# Altium footprint library F主板_V0.PcbLib: 63 footprints (part 2 of 4)
Each footprint in its own frame and in the unit in brackets; x right, y up, seen from the top. Pads: shape width x height; smd on the part's side, far side on the other; paste and mask are expansions set on the pad; w line width, h text height; cw(c..) or ccw(c..) is an arc to the next point about the centre after c.
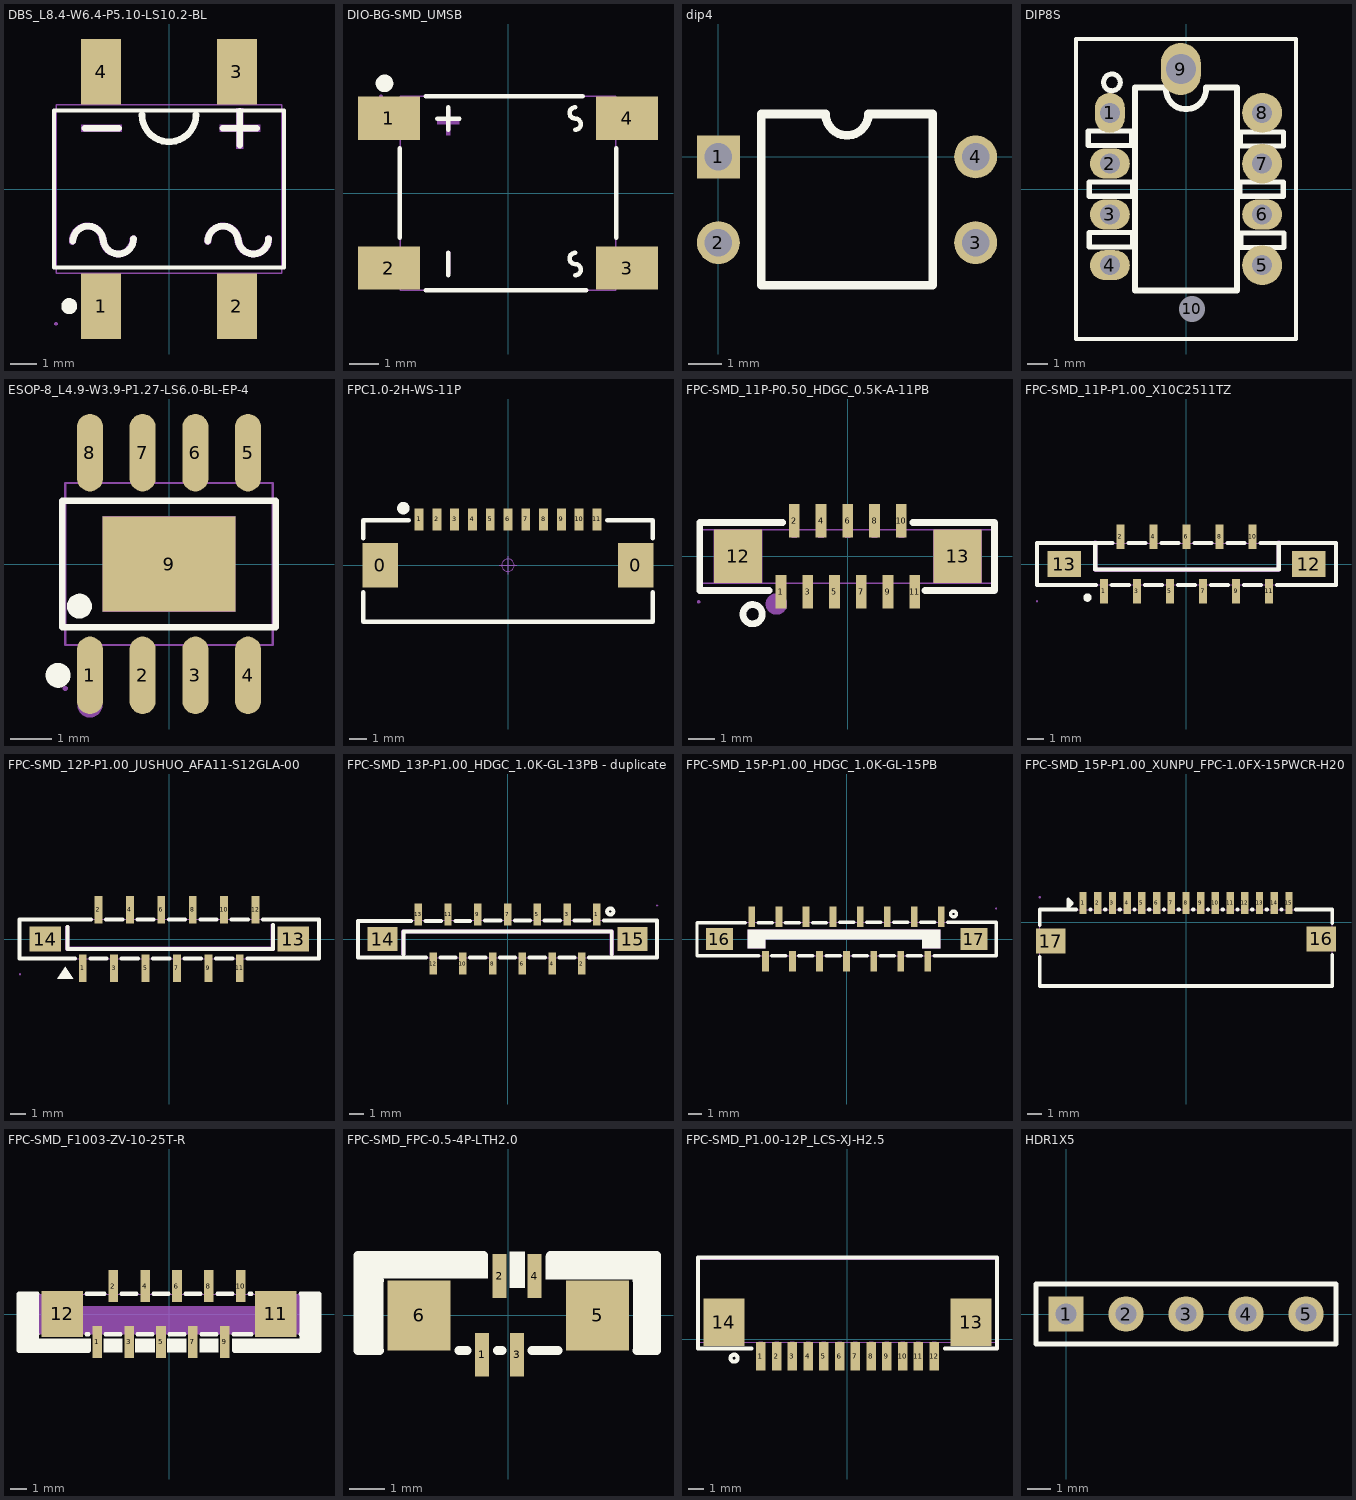
[diagram p1: the footprints below, top view; thin cyan lines are the x and y axes]

## DBS_L8.4-W6.4-P5.10-LS10.2-BL [mm]
pads (4):
  rect 1.505x2.47 smd: 1(-2.55,-4.41) 2(2.55,-4.41) 3(2.55,4.41) 4(-2.55,4.41)
Top Overlay:
  circle w0.3: c-3.755,-4.41 r0.15
  lines w0.152: -4.326,-2.946 4.326,-2.946 4.326,2.946 -4.326,2.946 -4.326,-2.946
  lines w0.254: -3.619,-1.968 cw(c-3.048,-1.968) -2.476,-1.968 ; -3.175,2.286 -1.905,2.286 ; -2.476,-1.873 ccw(c-1.905,-1.873) -1.333,-1.873 ; -1.016,2.794 ccw(c0,2.794) 1.016,2.794 ; 1.46,-1.968 cw(c2.032,-1.968) 2.603,-1.968 ; 2.032,2.286 3.302,2.286 ; 2.603,-1.873 ccw(c3.175,-1.873) 3.746,-1.873 ; 2.667,1.651 2.667,2.921
Mechanical 6:
  drawing of 5 lines, arcs and shapes, not listed
Mechanical 15:
  region: -4.19,-5.075 -4.19,-5.05 -4.225,-5.015 -4.275,-5.015 -4.31,-5.05 -4.31,-5.075 -4.31,-5.1 -4.275,-5.135 -4.225,-5.135 -4.19,-5.1
  region: 3.087,5.075 3.087,4.125 2.012,4.125 2.012,5.075
  region: 3.087,4.135 3.087,3.165 2.012,3.165 2.012,4.135
  region: -2.012,5.075 -2.012,4.125 -3.087,4.125 -3.087,5.075
  region: -2.012,4.135 -2.012,3.165 -3.087,3.165 -3.087,4.135
  region: 3.087,-5.075 3.087,-4.125 2.012,-4.125 2.012,-5.075
  region: 3.087,-4.135 3.087,-3.165 2.012,-3.165 2.012,-4.135
  region: -2.012,-5.075 -2.012,-4.125 -3.087,-4.125 -3.087,-5.075
  region: -2.012,-4.135 -2.012,-3.165 -3.087,-3.165 -3.087,-4.135
  lines w0.051: -4.25,-3.175 4.25,-3.175 4.25,3.175 -4.25,3.175 -4.25,-3.175

## DIO-BG-SMD_UMSB [mm]
pads (4):
  rect 2.105x1.47 smd: 1(-4.053,2.55) 2(-4.053,-2.55) 3(4.053,-2.55) 4(4.053,2.55)
Top Overlay:
  circle w0.3: c-4.205,3.737 r0.15
  lines w0.152: -3.683,-1.524 -3.683,1.524 ; -2.794,-3.302 2.667,-3.302 ; -2.794,3.302 2.54,3.302 ; -2.413,2.54 -1.651,2.54 ; -2.032,-2.794 -2.032,-2.032 ; -2.032,2.159 -2.032,2.921 ; 2.286,-2.794 ccw(c2.286,-2.603) 2.286,-2.413 cw(c2.286,-2.222) 2.286,-2.032 ; 2.286,2.159 ccw(c2.286,2.349) 2.286,2.54 cw(c2.286,2.73) 2.286,2.921 ; 3.683,-1.524 3.683,1.524
Mechanical 6:
  circle w0.3: c-4.725,2.55 r0.15
  region: -2.099,-2.748 -2.099,-1.986 -1.972,-1.986 -1.972,-2.748
  region: -2.095,2.857 -1.968,2.857 -1.968,1.968 -2.095,1.968
  region: -2.413,2.476 -1.651,2.476 -1.651,2.349 -2.413,2.349
Mechanical 15:
  region: 3.025,3.075 3.025,2.025 4.325,2.025 4.325,3.075
  region: 3.025,-2.025 3.025,-3.075 4.325,-3.075 4.325,-2.025
  region: -3.025,-2.025 -3.025,-3.075 -4.325,-3.075 -4.325,-2.025
  region: -3.025,3.075 -3.025,2.025 -4.325,2.025 -4.325,3.075
  region: -4.265,3.3 -4.266,3.324 -4.301,3.357 -4.349,3.357 -4.384,3.324 -4.385,3.3 -4.384,3.276 -4.349,3.242 -4.301,3.242 -4.266,3.276
  lines w0.051: -3.675,-3.3 -3.675,3.3 3.675,3.3 3.675,-3.3 -3.675,-3.3

## dip4 [mil]
height 19.68
pads (4):
  rect 50x50 hole 32: 1(0,0)
  round 50 hole 32: 2(0,-100) 3(300,-100) 4(300,0)
Top Overlay:
  lines w10: 50,-150 50,50 125,50 ccw(c150,50) 175,50 250,50 250,-150 50,-150

## DIP8S [mm]
height 18.8
pads (10):
  oval 1.5x2 hole 1: 1(-3.81,3.81)
  oval 2x1.5 hole 1: 2(-3.81,1.27) 3(-3.81,-1.27) 4(-3.81,-3.81) 6(3.81,-1.27)
  round 2 hole 1: 5(3.81,-3.81) 7(3.81,1.27) 8(3.81,3.81)
  oval 2x2.6 hole 1.5: 9(-0.26,6)
  round 1.2 hole 1.3: 10(0.3,-6)
Top Overlay:
  circle w0.25: c-3.706,5.33 r0.418
  lines w0.2: -5.5,-7.5 -5.5,7.5 5.5,7.5 5.5,-7.5 -5.5,-7.5
  lines w0.254: -4.886,2.183 -4.886,2.894 -2.72,2.894 -2.72,2.183 -4.886,2.183 ; -4.838,-2.895 -4.838,-2.183 -2.672,-2.183 -2.672,-2.895 -4.838,-2.895 ; -4.838,-0.362 -4.838,0.35 -2.672,0.35 -2.672,-0.362 -4.838,-0.362 ; 2.697,-0.361 2.697,0.35 4.863,0.35 4.863,-0.361 2.697,-0.361 ; 2.718,2.14 2.718,2.851 4.884,2.851 4.884,2.14 2.718,2.14 ; 2.738,-2.915 2.738,-2.203 4.904,-2.203 4.904,-2.915 2.738,-2.915
  lines w0.3: -1,5.051 -1,5.08 -2.54,5.08 -2.54,-5.08 2.54,-5.08 2.54,5.08 1,5.08 1,5.051 cw(c0,4.991) -1,5.052

## ESOP-8_L4.9-W3.9-P1.27-LS6.0-BL-EP-4 [mm]
pads (9):
  oval 0.63x1.865 smd: 1(-1.905,-2.682) 2(-0.635,-2.682) 3(0.635,-2.682) 4(1.905,-2.682) 5(1.905,2.682) 6(0.635,2.682) 7(-0.635,2.682) 8(-1.905,2.682)
  rect 3.2x2.3 smd paste+0 mask+0.05: 9(0,0)
Top Overlay:
  circle w0.3: c-2.159,-1.016 r0.15
  circle w0.3: c-2.672,-2.682 r0.15
  lines w0.152: -2.576,-1.521 -2.576,1.521 2.576,1.521 2.576,-1.521 -2.576,-1.521
Mechanical 6:
  circle w0.3: c-1.905,-3.4 r0.15
Mechanical 15:
  region: -2.44,-3 -2.44,-2.976 -2.475,-2.941 -2.524,-2.941 -2.559,-2.976 -2.56,-3 -2.559,-3.025 -2.524,-3.059 -2.475,-3.059 -2.44,-3.024
  region: 1.695,1.94 1.695,2.175 2.115,2.175 2.115,1.94
  region: 1.695,2.165 1.695,3 2.115,3 2.115,2.165
  region: 0.425,1.94 0.425,2.175 0.845,2.175 0.845,1.94
  region: 0.425,2.165 0.425,3 0.845,3 0.845,2.165
  region: -0.845,1.94 -0.845,2.175 -0.425,2.175 -0.425,1.94
  region: -0.845,2.165 -0.845,3 -0.425,3 -0.425,2.165
  region: -2.115,1.94 -2.115,2.175 -1.695,2.175 -1.695,1.94
  region: -2.115,2.165 -2.115,3 -1.695,3 -1.695,2.165
  region: 1.695,-2.175 1.695,-1.94 2.115,-1.94 2.115,-2.175
  region: 1.695,-3 1.695,-2.165 2.115,-2.165 2.115,-3
  region: 0.425,-2.175 0.425,-1.94 0.845,-1.94 0.845,-2.175
  region: 0.425,-3 0.425,-2.165 0.845,-2.165 0.845,-3
  region: -0.845,-2.175 -0.845,-1.94 -0.425,-1.94 -0.425,-2.175
  region: -0.845,-3 -0.845,-2.165 -0.425,-2.165 -0.425,-3
  region: -2.115,-2.175 -2.115,-1.94 -1.695,-1.94 -1.695,-2.175
  region: -2.115,-3 -2.115,-2.165 -1.695,-2.165 -1.695,-3
  region: -1.6,1.15 1.6,1.15 1.6,-1.15 -1.6,-1.15
  lines w0.051: -2.5,-1.95 -2.5,1.95 2.5,1.95 2.5,-1.95 -2.5,-1.95

## FPC1.0-2H-WS-11P [mm] "翻盖FPC，脚距1mm，不含脚（长15.9mm，宽5.2mm，高1.96mm）"
height 1.5
pads (13):
  rect 2x2.5 smd: 0(-7.19,0) 0(7.19,0)
  rect 0.5x1.25 smd: 1(-5,2.575) 2(-4,2.575) 3(-3,2.575) 4(-2,2.575) 5(-1,2.575) 6(0,2.575) 7(1,2.575) 8(2,2.575) 9(3,2.575) 10(4,2.575) 11(5,2.575)
Top Overlay:
  circle w0.5: c-5.889,3.21 r0.1
  lines w0.254: -8.136,-1.524 -8.136,-3.175 8.136,-3.175 8.136,-1.524 ; -8.136,1.524 -8.136,2.54 -5.596,2.54 ; 5.596,2.54 8.136,2.54 8.136,1.524
Mechanical 15:
  circle w0.05: c0,0 r0.35
  lines w0.05: -0.5,0 0.5,0 ; 0,-0.5 0,0.5
3D body "FPC1.0 2H-WS-11P.STEP": height 2, standoff -0.02, extent -7.95,-3.15 7.95,2.85

## FPC-SMD_11P-P0.50_HDGC_0.5K-A-11PB [mm]
pads (13):
  rect 0.4x1.25 smd paste+0 mask+0.05: 1(-2.5,-1.325) 2(-2,1.325) 3(-1.5,-1.325) 4(-1,1.325) 5(-0.5,-1.325) 6(0,1.325) 7(0.5,-1.325) 8(1,1.325) 9(1.5,-1.325) 10(2,1.325) 11(2.5,-1.325)
  rect 1.8x2 smd paste+0 mask+0.05: 12(-4.1,0) 13(4.1,0)
Top Overlay:
  circle w0.254: c-3.556,-2.159 r0.359
  lines w0.254: -2.932,-1.27 -5.53,-1.27 -5.53,1.27 -2.431,1.27 ; 2.43,1.27 5.478,1.27 5.478,-1.27 2.88,-1.27
Mechanical 6:
  circle w0.4: c-2.667,-1.778 r0.2
Mechanical 15:
  region: -5.515,-1.7 -5.515,-1.675 -5.55,-1.64 -5.6,-1.64 -5.635,-1.675 -5.635,-1.7 -5.635,-1.725 -5.6,-1.76 -5.55,-1.76 -5.515,-1.725
  region: 2.4,-0.7 2.6,-0.7 2.6,-1.7 2.4,-1.7
  region: 1.9,1.7 2.1,1.7 2.1,0.7 1.9,0.7
  region: 1.4,-0.7 1.6,-0.7 1.6,-1.7 1.4,-1.7
  region: 0.9,1.7 1.1,1.7 1.1,0.7 0.9,0.7
  region: 0.4,-0.7 0.6,-0.7 0.6,-1.7 0.4,-1.7
  region: -0.1,1.7 0.1,1.7 0.1,0.7 -0.1,0.7
  region: -0.6,-0.7 -0.4,-0.7 -0.4,-1.7 -0.6,-1.7
  region: -1.1,1.7 -0.9,1.7 -0.9,0.7 -1.1,0.7
  region: -1.6,-0.7 -1.4,-0.7 -1.4,-1.7 -1.6,-1.7
  region: -2.1,1.7 -1.9,1.7 -1.9,0.7 -2.1,0.7
  region: -2.6,-0.7 -2.4,-0.7 -2.4,-1.7 -2.6,-1.7
  region: -5,-1 -3.2,-1 -3.2,1 -5,1
  region: 3.2,-1 5,-1 5,1 3.2,1
  lines w0.051: -5.575,-1 -5.575,1 5.575,1 5.575,-1 -5.575,-1

## FPC-SMD_11P-P1.00_X10C2511TZ [mm]
pads (13):
  rect 0.5x1.5 smd paste+0 mask+0.05: 1(-5,-1.65) 2(-4,1.65) 3(-3,-1.65) 4(-2,1.65) 5(-1,-1.65) 6(0,1.65) 7(1,-1.65) 8(2,1.65) 9(3,-1.65) 10(4,1.65) 11(5,-1.65)
  rect 2x1.6 smd paste+0 mask+0.05: 12(7.4,0) 13(-7.4,0)
Top Overlay:
  circle w0.254: c-5.994,-2.032 r0.127
  lines w0.254: -5.525,1.27 -5.525,-0.34 5.58,-0.34 5.58,1.27 ; -5.481,-1.27 -9.05,-1.27 -9.05,1.27 -4.481,1.27 ; -4.519,-1.27 -3.481,-1.27 ; -3.519,1.27 -2.481,1.27 ; -2.519,-1.27 -1.481,-1.27 ; -1.519,1.27 -0.481,1.27 ; -0.519,-1.27 0.519,-1.27 ; 0.481,1.27 1.519,1.27 ; 1.481,-1.27 2.519,-1.27 ; 2.481,1.27 3.519,1.27 ; 3.481,-1.27 4.519,-1.27 ; 5.48,-1.27 8.994,-1.27 ; 5.519,1.27 4.481,1.27 9.049,1.27 9.049,-1.27
Mechanical 6:
  region: -5.398,1.27 -5.398,-0.213 5.453,-0.213 5.453,1.27 5.453,1.323 5.527,1.397 5.633,1.397 5.707,1.323 5.707,1.27 5.707,-0.34 5.707,-0.365 5.688,-0.412 5.652,-0.448 5.605,-0.467 5.58,-0.467 -5.525,-0.467 -5.55,-0.467 -5.596,-0.448 -5.632,-0.412 -5.652,-0.365 -5.652,-0.34 -5.652,1.27 -5.652,1.323 -5.577,1.397 -5.472,1.397 -5.398,1.323
Mechanical 15:
  region: -8.99,-2.25 -8.99,-2.225 -9.025,-2.19 -9.075,-2.19 -9.11,-2.225 -9.11,-2.25 -9.11,-2.275 -9.075,-2.31 -9.025,-2.31 -8.99,-2.275
  region: 4.875,-1.05 5.125,-1.05 5.125,-2.25 4.875,-2.25
  region: 3.875,2.25 4.125,2.25 4.125,1.05 3.875,1.05
  region: 2.875,-1.05 3.125,-1.05 3.125,-2.25 2.875,-2.25
  region: 1.875,2.25 2.125,2.25 2.125,1.05 1.875,1.05
  region: 0.875,-1.05 1.125,-1.05 1.125,-2.25 0.875,-2.25
  region: -0.125,2.25 0.125,2.25 0.125,1.05 -0.125,1.05
  region: -1.125,-1.05 -0.875,-1.05 -0.875,-2.25 -1.125,-2.25
  region: -2.125,2.25 -1.875,2.25 -1.875,1.05 -2.125,1.05
  region: -3.125,-1.05 -2.875,-1.05 -2.875,-2.25 -3.125,-2.25
  region: -4.125,2.25 -3.875,2.25 -3.875,1.05 -4.125,1.05
  region: -5.125,-1.05 -4.875,-1.05 -4.875,-2.25 -5.125,-2.25
  region: 6.7,0.56 8.1,0.56 8.1,-0.56 6.7,-0.56
  region: -8.1,0.56 -6.7,0.56 -6.7,-0.56 -8.1,-0.56
  lines w0.051: -9.05,-1.25 -9.05,1.25 9.05,1.25 9.05,-1.25 -9.05,-1.25

## FPC-SMD_12P-P1.00_JUSHUO_AFA11-S12GLA-00 [mm]
pads (14):
  rect 0.5x1.75 smd paste+0 mask+0.05: 1(-5.5,-1.875) 2(-4.5,1.875) 3(-3.5,-1.875) 4(-2.5,1.875) 5(-1.5,-1.875) 6(-0.5,1.875) 7(0.5,-1.875) 8(1.5,1.875) 9(2.5,-1.875) 10(3.5,1.875) 11(4.5,-1.875) 12(5.5,1.875)
  rect 2x1.6 smd paste+0 mask+0.05: 13(7.9,0) 14(-7.9,0)
Top Overlay:
  region: -6.621,-1.778 -7.129,-2.54 -6.113,-2.54
  lines w0.254: -6.477,0.762 -6.477,-0.635 6.604,-0.635 6.604,0.889 ; -5.981,-1.25 -9.542,-1.25 -9.542,1.25 -4.981,1.25 ; -5.019,-1.25 -3.981,-1.25 ; -4.019,1.25 -2.981,1.25 ; -3.019,-1.25 -1.981,-1.25 ; -2.019,1.25 -0.981,1.25 ; -1.019,-1.25 0.019,-1.25 ; -0.019,1.25 1.019,1.25 ; 0.981,-1.25 2.019,-1.25 ; 1.981,1.25 3.019,1.25 ; 2.981,-1.25 4.019,-1.25 ; 3.981,1.25 5.019,1.25 ; 4.981,-1.25 9.542,-1.25 9.542,1.25 5.981,1.25
Mechanical 6:
  region: -6.35,0.762 -6.35,-0.508 6.477,-0.508 6.477,0.889 6.477,0.942 6.551,1.016 6.657,1.016 6.731,0.942 6.731,0.889 6.731,-0.635 6.731,-0.66 6.712,-0.707 6.676,-0.743 6.629,-0.762 6.604,-0.762 -6.477,-0.762 -6.502,-0.762 -6.549,-0.743 -6.585,-0.707 -6.604,-0.66 -6.604,-0.635 -6.604,0.762 -6.604,0.815 -6.53,0.889 -6.424,0.889 -6.35,0.815
Mechanical 15:
  region: 7.1,0.64 8.7,0.64 8.7,-0.64 7.1,-0.64
  region: -8.7,0.64 -7.1,0.64 -7.1,-0.64 -8.7,-0.64
  region: -5.625,-1.05 -5.375,-1.05 -5.375,-2.25 -5.625,-2.25
  region: -4.625,2.25 -4.375,2.25 -4.375,1.05 -4.625,1.05
  region: -3.625,-1.05 -3.375,-1.05 -3.375,-2.25 -3.625,-2.25
  region: -2.625,2.25 -2.375,2.25 -2.375,1.05 -2.625,1.05
  region: -1.625,-1.05 -1.375,-1.05 -1.375,-2.25 -1.625,-2.25
  region: -0.625,2.25 -0.375,2.25 -0.375,1.05 -0.625,1.05
  region: 0.375,-1.05 0.625,-1.05 0.625,-2.25 0.375,-2.25
  region: 1.375,2.25 1.625,2.25 1.625,1.05 1.375,1.05
  region: 2.375,-1.05 2.625,-1.05 2.625,-2.25 2.375,-2.25
  region: 3.375,2.25 3.625,2.25 3.625,1.05 3.375,1.05
  region: 4.375,-1.05 4.625,-1.05 4.625,-2.25 4.375,-2.25
  region: 5.375,2.25 5.625,2.25 5.625,1.05 5.375,1.05
  region: -9.44,-2.25 -9.44,-2.225 -9.475,-2.19 -9.525,-2.19 -9.56,-2.225 -9.56,-2.25 -9.56,-2.275 -9.525,-2.31 -9.475,-2.31 -9.44,-2.275
  lines w0.051: -9.5,-1.25 9.5,-1.25 9.5,1.25 -9.5,1.25 -9.5,-1.25

## FPC-SMD_13P-P1.00_HDGC_1.0K-GL-13PB - duplicate [mm]
pads (15):
  rect 0.5x1.5 smd paste+0 mask+0.05: 1(6,1.65) 2(5,-1.65) 3(4,1.65) 4(3,-1.65) 5(2,1.65) 6(1,-1.65) 7(0,1.65) 8(-1,-1.65) 9(-2,1.65) 10(-3,-1.65) 11(-4,1.65) 12(-5,-1.65) 13(-6,1.65)
  rect 2x1.6 smd paste+0 mask+0.05: 14(-8.4,0) 15(8.4,0)
Top Overlay:
  circle w0.254: c6.9,1.85 r0.212
  lines w0.254: -7,-1 -7,0.5 7,0.5 7,-1 ; -6.481,1.2 -10.05,1.2 -10.05,-1.251 -5.481,-1.251 ; -5.519,1.2 -4.481,1.2 ; -4.519,-1.251 -3.481,-1.251 ; -3.519,1.2 -2.5,1.2 ; -2.519,-1.25 -1.481,-1.25 ; -1.519,1.25 -0.481,1.25 ; -0.519,-1.25 0.519,-1.25 ; 0.481,1.25 1.519,1.25 ; 1.481,-1.25 2.519,-1.25 ; 2.481,1.25 3.519,1.25 ; 3.481,-1.25 4.519,-1.25 ; 4.481,1.25 5.519,1.25 ; 5.481,-1.25 10.05,-1.25 10.05,1.25 6.481,1.25
Mechanical 6:
  region: -7.127,-1 -7.127,0.5 -7.127,0.525 -7.108,0.572 -7.072,0.608 -7.025,0.627 -7,0.627 7,0.627 7.025,0.627 7.072,0.608 7.108,0.572 7.127,0.525 7.127,0.5 7.127,-1 7.127,-1.053 7.053,-1.127 6.947,-1.127 6.873,-1.053 6.873,-1 6.873,0.373 -6.873,0.373 -6.873,-1 -6.873,-1.053 -6.947,-1.127 -7.053,-1.127 -7.127,-1.053
Mechanical 15:
  region: 10.11,2.25 10.109,2.274 10.074,2.307 10.026,2.307 9.991,2.274 9.99,2.25 9.991,2.226 10.026,2.192 10.074,2.192 10.109,2.226
  region: -6.125,2.25 -5.875,2.25 -5.875,1.05 -6.125,1.05
  region: -5.125,-1.05 -4.875,-1.05 -4.875,-2.25 -5.125,-2.25
  region: -4.125,2.25 -3.875,2.25 -3.875,1.05 -4.125,1.05
  region: -3.125,-1.05 -2.875,-1.05 -2.875,-2.25 -3.125,-2.25
  region: -1.125,-1.05 -0.875,-1.05 -0.875,-2.25 -1.125,-2.25
  region: 0.875,-1.05 1.125,-1.05 1.125,-2.25 0.875,-2.25
  region: 2.875,-1.05 3.125,-1.05 3.125,-2.25 2.875,-2.25
  region: 4.875,-1.05 5.125,-1.05 5.125,-2.25 4.875,-2.25
  region: 5.875,2.25 6.125,2.25 6.125,1.05 5.875,1.05
  region: 3.875,2.25 4.125,2.25 4.125,1.05 3.875,1.05
  region: 1.875,2.25 2.125,2.25 2.125,1.05 1.875,1.05
  region: -0.125,2.25 0.125,2.25 0.125,1.05 -0.125,1.05
  region: -2.125,2.25 -1.875,2.25 -1.875,1.05 -2.125,1.05
  region: 7.7,0.56 9.1,0.56 9.1,-0.56 7.7,-0.56
  region: -9.1,0.56 -7.7,0.56 -7.7,-0.56 -9.1,-0.56
  lines w0.051: -10.05,-1.25 -10.05,1.25 10.05,1.25 10.05,-1.25 -10.05,-1.25

## FPC-SMD_15P-P1.00_HDGC_1.0K-GL-15PB [mm]
pads (17):
  rect 0.5x1.5 smd paste+0 mask+0.05: 1(7,1.65) 2(6,-1.65) 3(5,1.65) 4(4,-1.65) 5(3,1.65) 6(2,-1.65) 7(1,1.65) 8(0,-1.65) 9(-1,1.65) 10(-2,-1.65) 11(-3,1.65) 12(-4,-1.65) 13(-5,1.65) 14(-6,-1.65) 15(-7,1.65)
  rect 2x1.6 smd paste+0 mask+0.05: 16(-9.4,0) 17(9.4,0)
Top Overlay:
  circle w0.254: c7.9,1.85 r0.212
  region: -7.3,0.7 6.9,0.7 6.9,-0.7 5.6,-0.7 5.6,0 -6,0 -6,-0.7 -7.3,-0.7 -7.3,-0.3
  lines w0.254: -7.481,1.2 -11.05,1.2 -11.05,-1.251 -6.481,-1.251 ; -6.519,1.2 -5.481,1.2 ; -5.519,-1.251 -4.481,-1.251 ; -4.519,1.2 -3.481,1.2 ; -3.519,-1.251 -2.481,-1.251 ; -2.519,1.2 -1.5,1.2 ; -1.519,-1.25 -0.481,-1.25 ; -0.519,1.25 0.519,1.25 ; 0.481,-1.25 1.519,-1.25 ; 1.481,1.25 2.519,1.25 ; 2.481,-1.25 3.519,-1.25 ; 3.481,1.25 4.519,1.25 ; 4.481,-1.25 5.519,-1.25 ; 5.481,1.25 6.519,1.25 ; 6.481,-1.25 11.05,-1.25 11.05,1.25 7.481,1.25
Mechanical 6:
  region: -7.3,0.7 6.9,0.7 6.9,-0.7 5.6,-0.7 5.6,0 -6,0 -6,-0.7 -7.3,-0.7 -7.3,-0.3
Mechanical 15:
  region: 11.11,2.25 11.109,2.274 11.074,2.307 11.026,2.307 10.991,2.274 10.99,2.25 10.991,2.226 11.026,2.192 11.074,2.192 11.109,2.226
  region: -7.125,2.25 -6.875,2.25 -6.875,1.15 -7.125,1.15
  region: -6.125,-1.15 -5.875,-1.15 -5.875,-2.25 -6.125,-2.25
  region: -5.125,2.25 -4.875,2.25 -4.875,1.15 -5.125,1.15
  region: -4.125,-1.15 -3.875,-1.15 -3.875,-2.25 -4.125,-2.25
  region: -3.125,2.25 -2.875,2.25 -2.875,1.15 -3.125,1.15
  region: -2.125,-1.15 -1.875,-1.15 -1.875,-2.25 -2.125,-2.25
  region: -0.125,-1.15 0.125,-1.15 0.125,-2.25 -0.125,-2.25
  region: 1.875,-1.15 2.125,-1.15 2.125,-2.25 1.875,-2.25
  region: 3.875,-1.15 4.125,-1.15 4.125,-2.25 3.875,-2.25
  region: 5.875,-1.15 6.125,-1.15 6.125,-2.25 5.875,-2.25
  region: 6.875,2.25 7.125,2.25 7.125,1.15 6.875,1.15
  region: 4.875,2.25 5.125,2.25 5.125,1.15 4.875,1.15
  region: 2.875,2.25 3.125,2.25 3.125,1.15 2.875,1.15
  region: 0.875,2.25 1.125,2.25 1.125,1.15 0.875,1.15
  region: -1.125,2.25 -0.875,2.25 -0.875,1.15 -1.125,1.15
  region: -10.13,0.55 -8.63,0.55 -8.63,-0.55 -10.13,-0.55
  region: 8.6,0.55 10.1,0.55 10.1,-0.55 8.6,-0.55
  lines w0.051: -11.05,-1.25 -11.05,1.25 11.05,1.25 11.05,-1.25 -11.05,-1.25

## FPC-SMD_15P-P1.00_XUNPU_FPC-1.0FX-15PWCR-H20 [mm]
pads (17):
  rect 0.5x1.5 smd paste+0 mask+0.05: 1(-7,1.3) 2(-6,1.3) 3(-5,1.3) 4(-4,1.3) 5(-3,1.3) 6(-2,1.3) 7(-1,1.3) 8(0,1.3) 9(1,1.3) 10(2,1.3) 11(3,1.3) 12(4,1.3) 13(5,1.3) 14(6,1.3) 15(7,1.3)
  rect 2x1.7 smd paste+0 mask+0.05: 16(9.2,-1.143) 17(-9.2,-1.3)
Top Overlay:
  lines w0.254: -9.95,-2.381 -9.95,-4.35 9.95,-4.35 9.95,-2.224 ; -9.95,-0.219 -9.95,0.85 ; -9.9,0.85 -7.481,0.85 ; -6.519,0.85 -6.481,0.85 ; -5.519,0.85 -5.481,0.85 ; -4.519,0.85 -4.481,0.85 ; -3.519,0.85 -3.481,0.85 ; -2.519,0.85 -2.481,0.85 ; -1.519,0.85 -1.481,0.85 ; -0.519,0.85 -0.481,0.85 ; 0.481,0.85 0.519,0.85 ; 1.481,0.85 1.519,0.85 ; 2.481,0.85 2.519,0.85 ; 3.481,0.85 3.519,0.85 ; 4.481,0.85 4.519,0.85 ; 5.481,0.85 5.519,0.85 ; 6.481,0.85 6.519,0.85 ; 7.481,0.85 9.95,0.85 9.95,-0.062 ; -8.015,1.022 -7.761,1.276 -8.015,1.53 -8.015,1.022
Mechanical 6:
  region: -8.015,1.53 -8.015,1.022 -7.761,1.276
Mechanical 15:
  region: -9.89,1.69 -9.89,1.714 -9.925,1.749 -9.974,1.749 -10.009,1.714 -10.01,1.69 -10.009,1.665 -9.974,1.631 -9.925,1.631 -9.89,1.665
  region: -9.9,-0.8 -8.5,-0.8 -8.5,-1.8 -9.9,-1.8
  region: 8.5,-0.643 9.9,-0.643 9.9,-1.643 8.5,-1.643
  region: -7.1,1.69 -6.9,1.69 -6.9,0.79 -7.1,0.79
  region: -6.1,1.69 -5.9,1.69 -5.9,0.79 -6.1,0.79
  region: -5.1,1.69 -4.9,1.69 -4.9,0.79 -5.1,0.79
  region: -4.1,1.69 -3.9,1.69 -3.9,0.79 -4.1,0.79
  region: -3.1,1.69 -2.9,1.69 -2.9,0.79 -3.1,0.79
  region: -2.1,1.69 -1.9,1.69 -1.9,0.79 -2.1,0.79
  region: -1.1,1.69 -0.9,1.69 -0.9,0.79 -1.1,0.79
  region: -0.1,1.69 0.1,1.69 0.1,0.79 -0.1,0.79
  region: 0.9,1.69 1.1,1.69 1.1,0.79 0.9,0.79
  region: 1.9,1.69 2.1,1.69 2.1,0.79 1.9,0.79
  region: 2.9,1.69 3.1,1.69 3.1,0.79 2.9,0.79
  region: 3.9,1.69 4.1,1.69 4.1,0.79 3.9,0.79
  region: 4.9,1.69 5.1,1.69 5.1,0.79 4.9,0.79
  region: 5.9,1.69 6.1,1.69 6.1,0.79 5.9,0.79
  region: 6.9,1.69 7.1,1.69 7.1,0.79 6.9,0.79
  lines w0.051: -9.95,-4.35 -9.95,0.85 9.95,0.85 9.95,-4.35 -9.95,-4.35

## FPC-SMD_F1003-ZV-10-25T-R [mm]
pads (12):
  rect 0.6x2 smd: 1(-4.5,-1.75) 2(-3.5,1.75) 3(-2.5,-1.75) 4(-1.5,1.75) 5(-0.5,-1.75) 6(0.5,1.75) 7(1.5,-1.75) 8(2.5,1.75) 9(3.5,-1.75) 10(4.5,1.75)
  rect 2.6x2.9 smd: 11(6.7,0) 12(-6.7,0)
Top Overlay:
  rectangle: 8.18,-2.286 9.398,1.27
  rectangle: 3.937,-2.286 9.398,-1.524
  rectangle: 1.905,-2.413 3.1,-1.524
  rectangle: -0.127,-2.413 1.1,-1.524
  rectangle: -2.13,-2.413 -0.889,-1.524
  rectangle: -4.11,-2.413 -2.9,-1.524
  rectangle: -8.509,-2.286 -4.9,-1.524
  rectangle: -9.398,-2.286 -8.14,1.27
  lines w0.254: -8.231,-1.27 -8.509,-1.27 -8.509,1.27 -8.231,1.27 ; -5.169,-1.27 -5.031,-1.27 ; -5.169,1.27 -4.031,1.27 ; -3.969,-1.27 -3.031,-1.27 ; -2.969,1.27 -2.031,1.27 ; -1.969,-1.27 -1.031,-1.27 ; -0.969,1.27 -0.031,1.27 ; 0.031,-1.27 0.969,-1.27 ; 1.031,1.27 1.969,1.27 ; 2.031,-1.27 2.969,-1.27 ; 3.031,1.27 3.969,1.27 ; 4.031,-1.27 5.169,-1.27 ; 5.031,1.27 5.169,1.27 ; 8.231,-1.27 8.509,-1.27 8.509,1.27 8.231,1.27
  lines w0.3: -8.509,1.27 -9.398,1.27 -9.398,-2.286 -5.05,-2.286 ; 4.09,-2.286 9.398,-2.286 9.398,1.27 8.509,1.27
Mechanical 6:
  region: 8.5,1.25 8.5,-0.95 8.49,-1.03 8.46,-1.1 8.43,-1.14 8.39,-1.18 8.35,-1.21 8.28,-1.24 8.205,-1.25 -8.205,-1.25 -8.285,-1.24 -8.35,-1.21 -8.41,-1.16 -8.46,-1.1 -8.49,-1.03 -8.5,-0.95 -8.5,1.25 -5.87,1.25 -5.87,0.5 5.87,0.5 5.87,1.25
Mechanical 15:
  region: -8.44,-2.25 -8.44,-2.225 -8.475,-2.19 -8.525,-2.19 -8.56,-2.225 -8.56,-2.25 -8.56,-2.275 -8.525,-2.31 -8.475,-2.31 -8.44,-2.275
  region: -4.625,-1.2 -4.375,-1.2 -4.375,-2.25 -4.625,-2.25
  region: -3.625,2.25 -3.375,2.25 -3.375,1.2 -3.625,1.2
  region: -2.625,-1.2 -2.375,-1.2 -2.375,-2.25 -2.625,-2.25
  region: -1.625,2.25 -1.375,2.25 -1.375,1.2 -1.625,1.2
  region: -0.625,-1.2 -0.375,-1.2 -0.375,-2.25 -0.625,-2.25
  region: 0.375,2.25 0.625,2.25 0.625,1.2 0.375,1.2
  region: 1.375,-1.2 1.625,-1.2 1.625,-2.25 1.375,-2.25
  region: 2.375,2.25 2.625,2.25 2.625,1.2 2.375,1.2
  region: 3.375,-1.2 3.625,-1.2 3.625,-2.25 3.375,-2.25
  region: 4.375,2.25 4.625,2.25 4.625,1.2 4.375,1.2
  region: 6.1,1.25 7.6,1.25 7.6,-1.25 6.1,-1.25
  region: -7.6,1.25 -6.1,1.25 -6.1,-1.25 -7.6,-1.25
  lines w0.051: -8.5,-1.25 -8.5,1.25 8.5,1.25 8.5,-1.25 -8.5,-1.25

## FPC-SMD_FPC-0.5-4P-LTH2.0 [mm]
pads (6):
  rect 0.4x1.25 smd: 1(-0.75,-1.125) 2(-0.25,1.125) 3(0.25,-1.125) 4(0.75,1.125)
  rect 1.8x2 smd: 5(2.55,0) 6(-2.55,0)
Top Overlay:
  rectangle: 0.03,0.79 0.47,1.83
  rectangle: 3.57,-1 4.2,1.56
  rectangle: 1.06,1.03 4.28,1.72
  rectangle: -4.2,1.05 -0.58,1.65
  rectangle: -4.3,-1 -3.57,1.49
  lines w0.254: -3.681,-1 -3.8,-1 ; -3.681,1 -3.8,1 -3.8,-1 ; -1.419,-1 -1.181,-1 ; -0.71,1.49 -0.71,1.71 -4.3,1.71 -4.3,-1 -3.8,-1 ; -0.319,-1 -0.181,-1 ; 0.181,1 0.319,1 ; 0.681,-1 1.419,-1 ; 1.2,1.72 4.24,1.72 4.24,-1.01 4.23,-1 3.8,-1 ; 3.681,-1 3.8,-1 ; 3.681,1 3.8,1 3.8,-1

## FPC-SMD_P1.00-12P_LCS-XJ-H2.5 [mm]
pads (14):
  rect 0.6x1.8 smd: 1(-5.498,-1.085) 2(-4.5,-1.084) 3(-3.5,-1.084) 4(-2.5,-1.084) 5(-1.5,-1.084) 6(-0.5,-1.084) 7(0.5,-1.084) 8(1.5,-1.084) 9(2.5,-1.084) 10(3.5,-1.084) 11(4.5,-1.084) 12(5.5,-1.084)
  rect 2.6x3 smd: 13(7.85,1.085) 14(-7.85,1.085)
Top Overlay:
  circle w0.254: c-7.2,-1.2 r0.224
  lines w0.254: -6.1,-0.6 -9.5,-0.6 -9.5,5.2 9.5,5.2 9.5,-0.6 6.2,-0.6
Mechanical 15:
  region: 8.95,-0.19 6.75,-0.19 6.75,2.36 8.95,2.36
  region: -6.75,-0.19 -8.95,-0.19 -8.95,2.36 -6.75,2.36
  region: -5.623,-0.168 -5.373,-0.168 -5.373,-1.618 -5.623,-1.618
  region: -4.625,-0.168 -4.375,-0.168 -4.375,-1.618 -4.625,-1.618
  region: -3.625,-0.168 -3.375,-0.168 -3.375,-1.618 -3.625,-1.618
  region: -2.625,-0.168 -2.375,-0.168 -2.375,-1.618 -2.625,-1.618
  region: -1.625,-0.168 -1.375,-0.168 -1.375,-1.618 -1.625,-1.618
  region: -0.625,-0.168 -0.375,-0.168 -0.375,-1.618 -0.625,-1.618
  region: 0.375,-0.168 0.625,-0.168 0.625,-1.618 0.375,-1.618
  region: 1.375,-0.168 1.625,-0.168 1.625,-1.618 1.375,-1.618
  region: 2.375,-0.168 2.625,-0.168 2.625,-1.618 2.375,-1.618
  region: 3.375,-0.168 3.625,-0.168 3.625,-1.618 3.375,-1.618
  region: 4.375,-0.168 4.625,-0.168 4.625,-1.618 4.375,-1.618
  region: 5.375,-0.168 5.625,-0.168 5.625,-1.618 5.375,-1.618
  region: -9.44,-0.2 -9.44,-0.175 -9.475,-0.14 -9.525,-0.14 -9.56,-0.175 -9.56,-0.2 -9.56,-0.225 -9.525,-0.26 -9.475,-0.26 -9.44,-0.225
  lines w0.051: -9.5,-0.2 9.5,-0.2 9.5,5.1 -9.5,5.1 -9.5,-0.2

## HDR1X5 [mm] "Connector; Header; 5 Position"
height 0.5
pads (5):
  rect 1.5x1.5 hole 0.9: 1(0,0)
  round 1.5 hole 0.9: 2(2.54,0) 3(5.08,0) 4(7.62,0) 5(10.16,0)
Top Overlay:
  lines w0.2: -1.27,-1.27 -1.27,1.27 11.43,1.27 11.43,-1.27 -1.27,-1.27